# Altium schematic symbol library FLS ADC_A.SchLib: 25 symbols
Pins are listed as number, name and electrical type; pins without a type are passive.

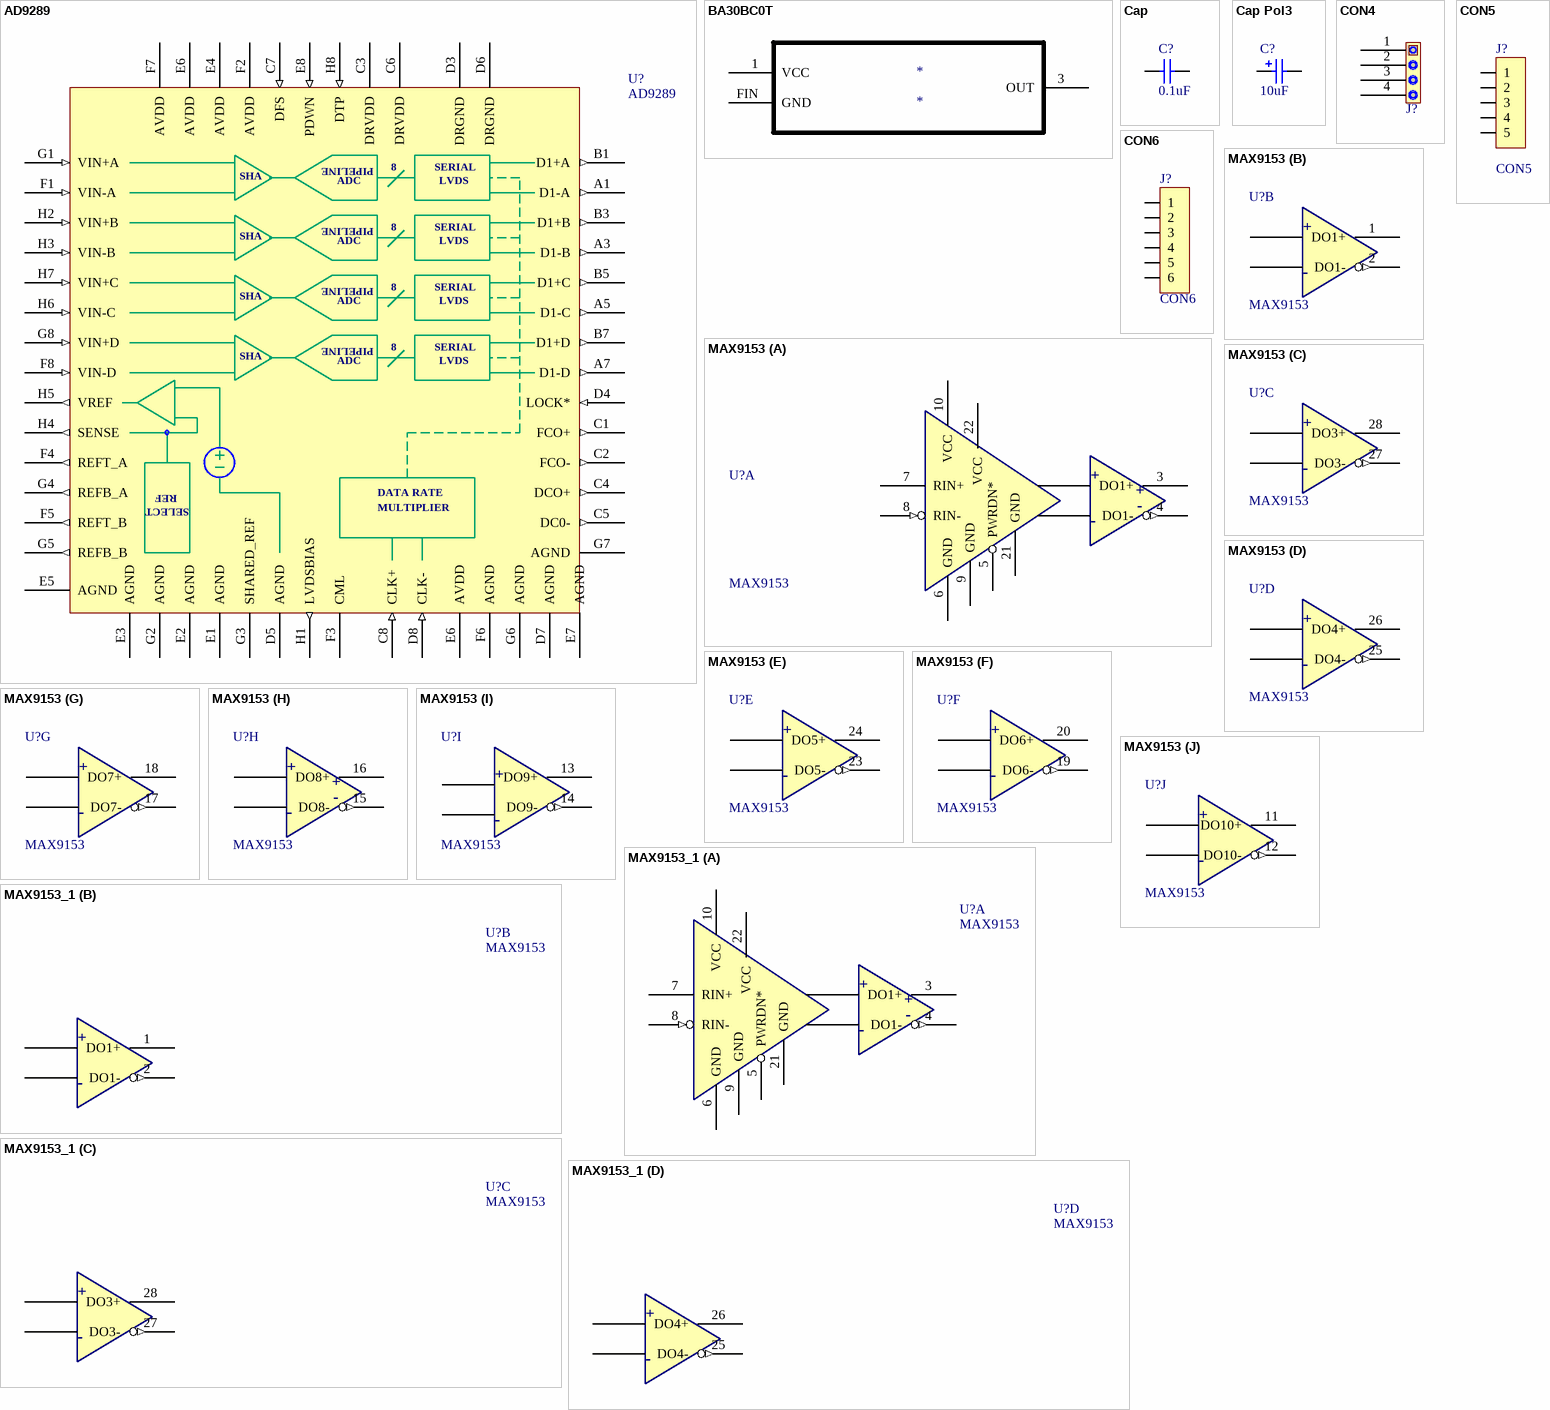
[diagram p0: symbols AD9289 to MAX9153_1]

## AD9289
designator U?
footprint BGA100P8X8-64A (BGA, 64-Leads, Body 10x10mm, Pitch 1mm)
footprint BGA80P8X8-64B
pins: A1 D1-A (out), A3 D1-B (out), A5 D1-C (out), A7 D1-D (out), B1 D1+A (out), B3 D1+B (out), B5 D1+C (out), B7 D1+D (out), C1 FCO+ (out) "FRAME CLOCK OUT (MSB INDICATOR)", C2 FCO- (out) "FRAME CLOCK OUT (MSB INDICATOR)", C3 DRVDD (power) "DIGITAL SUPPLY", C4 DCO+ (out) "DATA CLOCK OUTPUT", C5 DC0- (out) "DATA CLOCK OUTPUT", C6 DRVDD (power) "DIGITAL SUPPLY", C7 DFS (in) "DATA FORMAT SELECT", C8 CLK+ (in), D3 DRGND (power) "DIGITAL GROUND", D4 LOCK* (in) "PLL LOCK INPUT", D5 AGND (power), D6 DRGND (power) "DIGITAL GROUND", D7 AGND (power), D8 CLK- (in), E1 AGND (power), E2 AGND (power), E3 AGND (power), E4 AVDD (power) "ANALOG SUPPLY", E5 AGND (power), E6 AVDD (power), E6 AVDD (power) "ANALOG SUPPLY", E7 AGND (power), E8 PDWN (in), F1 VIN-A (in) "P", F2 AVDD (power) "ANALOG SUPPLY", F3 CML "COMMON MODE AVDD/2", F4 REFT_A (out), F5 REFT_B (out), F6 AGND (power), F7 AVDD (power) "ANALOG SUPPLY", F8 VIN-D (in), G1 VIN+A (in) "P", G2 AGND (power), G3 SHARED_REF (power), G4 REFB_A (out), G5 REFB_B (out), G6 AGND (power), G7 AGND (power), G8 VIN+D (in), H1 LVDSBIAS (out), H2 VIN+B (in), H3 VIN-B (in) "S", H4 SENSE (out), H5 VREF (out), H6 VIN-C (in), H7 VIN+C (in), H8 DTP (in) "DIGITAL TEST PATTERN"
text: PIPELINE; 8; SERIAL; SHA; ADC; LVDS; REF; DATA RATE; SELECT; MULTIPLIER

## BA30BC0T
designator *
footprint TO252-3 (Rohm TO252-3)
pins: 1 VCC, 3 OUT, FIN GND (power)

## Cap
designator C?, comment 0.1uF
Capacitor; Murata Electronics North America: GRM216F51E104ZA01D; Published: 8-Jun-2000; LatestRevisionDate: 17-Jul-2002; LatestRevisionNote: Re-released for DXP Platform.; PackageReference: RAD-0.3; Publisher: Altium Limited; Digi-Key: 490-1726-2-ND; Footprint: 0805; Value: 0.1uF
footprint RAD-0.3 (Radial Cap, Thru-Hole; 2 Leads; 0.3 in Pin Spacing)
footprint CAPR2.54-5.1x3.2 (Capacitor, Ceramic, Thru-Hole, Dipped Radial; Body 5.1 x 3.2 mm (WxT) Pin Spacing 2.54 mm (typ))
footprint CAPR5.08-7.8x3.2 (Capacitor, Ceramic, Thru-Hole, Dipped Radial; Body 7.8 x 3.2 mm (WxT) Pin Spacing 5.08 mm (typ))
simulation model CAP (Capacitor)
signal-integrity model Cap
footprint 0805 slim
footprint 1608[0603] (Chip Capacitor, Body 1.6x0.8mm, IPC High Density)
pins: 1, 2

## Cap Pol3
designator C?, comment 10uF
Polarized Capacitor (Surface Mount); TDK Corporation: C2012Y5V1A106Z; Description: CAP CER 10UF 10V Y5V 0805; Published: 8-Jun-2000; LatestRevisionDate: 29-May-2009; Footprint: 0805 (2012 Metric); PackageReference: C0805; Publisher: Altium Limited; PackageDescription: Chip Capacitor; Digi-Key: 445-1371-6-ND; Value: 10uF
footprint C0805 (Chip Capacitor, Body 2.0x1.3mm, IPC High Density)
footprint 1812 (Chip Capacitor, Body 4.5x3.2mm, IPC High Density)
footprint 1825 (Chip Capacitor, Body 4.5x6.4mm, IPC High Density)
footprint C2225 (Chip Capacitor, Body 5.7x6.4mm, IPC High Density)
footprint 2220 (Chip Capacitor, Body 5.7x5.0mm, IPC High Density)
simulation model CAP (Capacitor)
signal-integrity model Cap Pol
footprint TC7343-2917 (Capacitor, SM Tantalum; Body 7.3 x 4.3 mm (LxW typ))
footprint 1206
pins: 1, 2
1 alternate drawing of the same symbol

## CON4
designator J?  (value not drawn)
footprint SIP4
3D model Molex_CON_4_Header_022112042 (PCB3D Model)
pins: 1 (power), 2 (power), 3 (power), 4 (power)

## CON5
designator J?
footprint SIP5
pins: 1, 2, 3, 4, 5

## CON6
designator J?
pins: 1, 2, 3, 4, 5, 6

## MAX9153
designator U?
footprint TSSOP28-Max (TSOP, 28-Leads, Body 9.8x4.5mm (max), Pitch 0.65mm, IPC Medium Density)
part A pins: 3 DO1+, 4 DO1- (out), 5 PWRDN* (power), 6 GND (power), 7 RIN+, 8 RIN- (in), 9 GND (power), 10 VCC (power), 21 GND (power), 22 VCC (power)
part B pins: 1 DO1+, 2 DO1- (out)
part C pins: 27 DO3- (out), 28 DO3+
part D pins: 25 DO4- (out), 26 DO4+
part E pins: 23 DO5- (out), 24 DO5+
part F pins: 19 DO6- (out), 20 DO6+
part G pins: 17 DO7- (out), 18 DO7+
part H pins: 15 DO8- (out), 16 DO8+
part I pins: 13 DO9+, 14 DO9- (out)
part J pins: 11 DO10+, 12 DO10- (out)
part A text: +; -
part B text: +; -
part C text: +; -
part D text: +; -
part E text: +; -
part F text: +; -
part G text: +; -
part H text: +; -
part I text: +; -
part J text: +; -

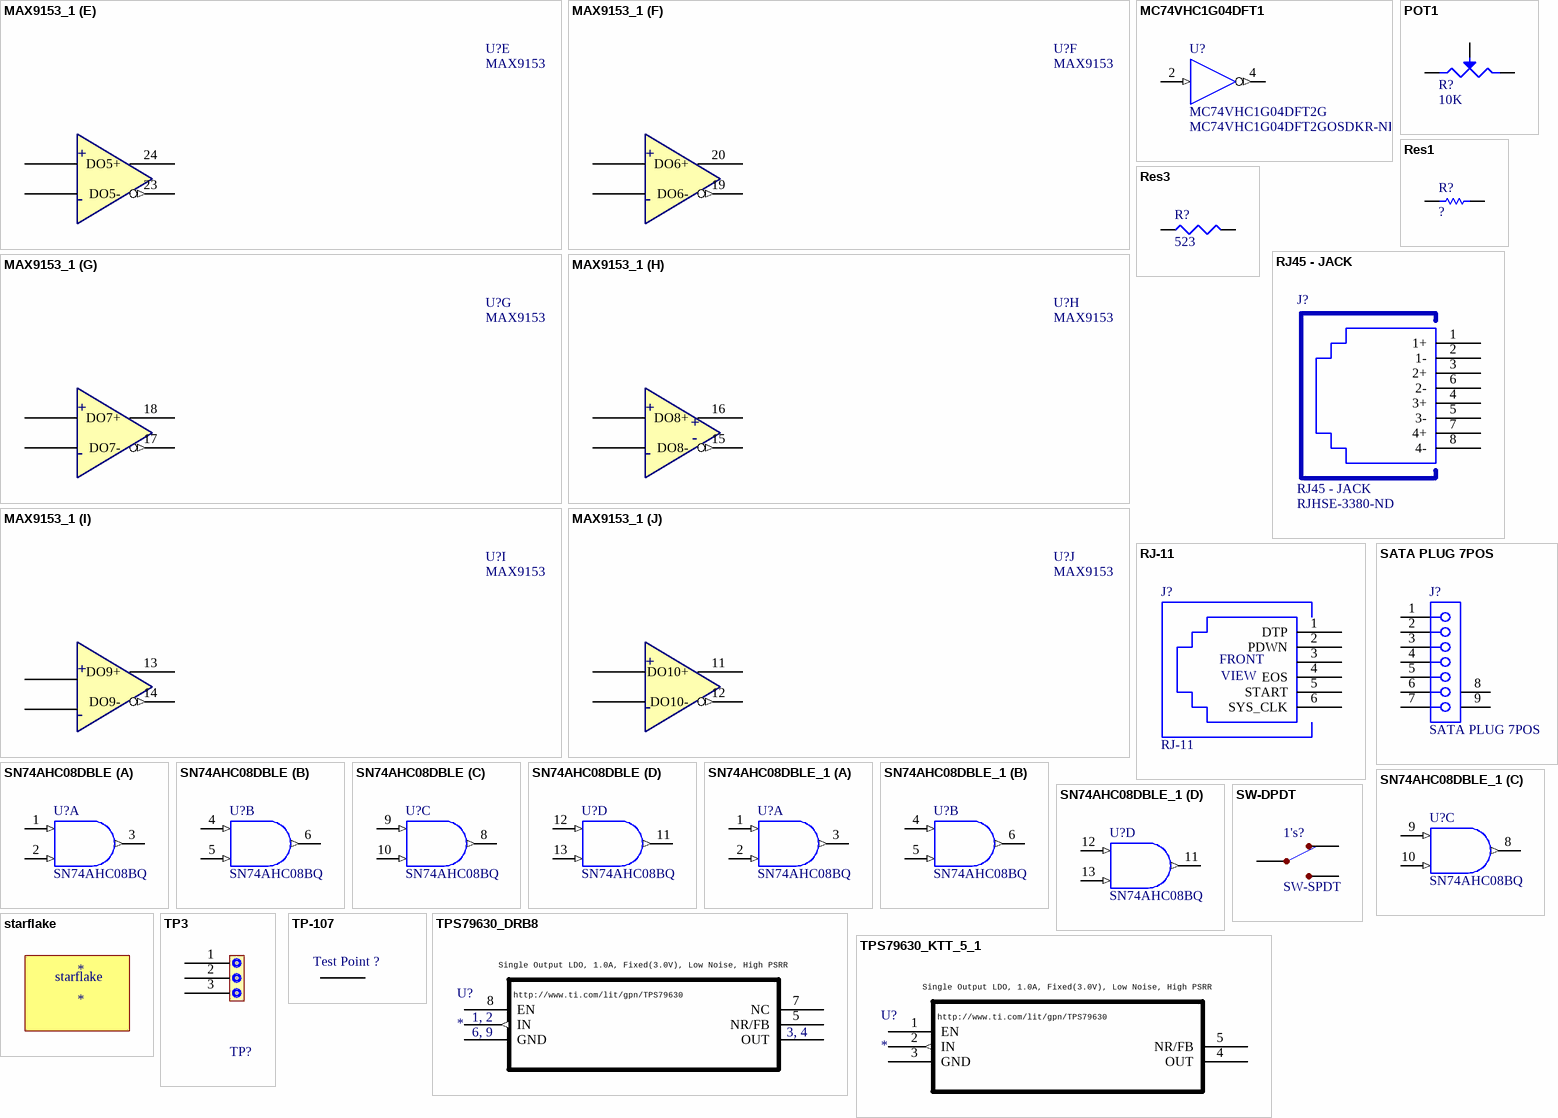
[diagram p1: symbols MAX9153_1 to TPS79630_KTT_5_1]

## MAX9153_1
designator U?, comment MAX9153
footprint TSSOP28-Max (TSOP, 28-Leads, Body 9.8x4.5mm (max), Pitch 0.65mm, IPC Medium Density)
footprint TSSOP50P640-28N (TSSOP, 28-Leads, Body 7.8x4.4mm, Pitch 0.5mm, IPC Medium Density)
part A pins: 3 DO1+, 4 DO1- (out), 5 PWRDN* (power), 6 GND (power), 7 RIN+, 8 RIN- (in), 9 GND (power), 10 VCC (power), 21 GND (power), 22 VCC (power)
part B pins: 1 DO1+, 2 DO1- (out)
part C pins: 27 DO3- (out), 28 DO3+
part D pins: 25 DO4- (out), 26 DO4+
part E pins: 23 DO5- (out), 24 DO5+
part F pins: 19 DO6- (out), 20 DO6+
part G pins: 17 DO7- (out), 18 DO7+
part H pins: 15 DO8- (out), 16 DO8+
part I pins: 13 DO9+, 14 DO9- (out)
part J pins: 11 DO10+, 12 DO10- (out)
part A text: +; -
part B text: +; -
part C text: +; -
part D text: +; -
part E text: +; -
part F text: +; -
part G text: +; -
part H text: +; -
part I text: +; -
part J text: +; -

## MC74VHC1G04DFT1
designator U?, comment MC74VHC1G04DFT2G  Supplier Part Number 1: MC74VHC1G04DFT2GOSDKR-ND
Inverter; Note: Pin 1 is NC and is not drawn.; Published: 15-Apr-2002; LatestRevisionDate: 12-Dec-2006; LatestRevisionNote: IPC-7351 Footprint Added.; DatasheetVersion: 1999; PackageVersion: Oct-1999; PackageReference: 419A-01; Publisher: Altium Limited; PackageDescription: 5-Pin SOT-353 Package 0.65 mm Pitch, 2.1 mm Lead Span; ComponentLink1Description: Manufacturer Link; ComponentLink1URL: http://www.onsemi.com/; ComponentLink2Description: Datasheet; ComponentLink2URL: http://www.onsemi.com/pub/Collateral/MC74VHC1G04-D.PDF; Supplier 1: Digi-Key
footprint 419A-01_N (SOT353, 5-Leads, Body 2x1.3mm, Pitch 0.65mm, Lead Span 2.1mm, IPC Medium Density)
footprint 419A-01_L (SOT353, 5-Leads, Body 2x1.3mm, Pitch 0.65mm, Lead Span 2.1mm, IPC High Density)
footprint 419A-01_M (SOT353, 5-Leads, Body 2x1.3mm, Pitch 0.65mm, Lead Span 2.1mm, IPC Low Density)
pins: 2 IN (in), 3 GND (power) hidden to GND, 4 ~{OUT} (out), 5 VDD (power) hidden to 3VCCD

## POT1
designator R?, comment 10K
Vishay Foil Resistors (Division of Vishay Precision Group): Y405310K0000J0L; Description: TRIMMER 10K OHM 0.25W TH; Temperature Coefficient: ±10ppm/°C; Digi-Key Part Number: 804-1003-ND; Series: Accutrim 1240W
footprint V1240W
pins: CCW, CW, W

## Res1
designator R?
Resistor; Published: 8-Jun-2000; LatestRevisionDate: 17-Jul-2002; LatestRevisionNote: Re-released for DXP Platform.; PackageReference: AXIAL-0.3; Publisher: Altium Limited; Value: ?
footprint AXIAL-0.3 (Axial Device, Thru-Hole; 2 Leads; 0.3 in Pin Spacing)
simulation model RESISTOR (Resistor)
signal-integrity model Res
footprint 0805 SLIM
footprint J1-0603
footprint 1206 (Chip Capacitor; Body 3.2 x 1.6 mm (LxW typ))
pins: 1, 2

## Res3
designator R?, comment value 523  (hidden comment: 673)
Resistor; Panasonic - ECG: ERJ-6ENF5230V; Description: RES 523 OHM 1/8W 1% 0805 SMD; Published: 8-Jun-2000; LatestRevisionDate: 29-May-2009; LatestRevisionNote: IPC-7351 Footprint Added.; PackageReference: J1-0603; Publisher: Altium Limited; PackageDescription: Chip Resistor; Digi-key: P523CDKR-ND; Size: 0805 (2012 Metric)
footprint J1-0603 (Chip Resistor, Body 1.6x0.8mm, IPC High Density)
footprint 14-1210 (Chip Resistor, Body 3.2x2.5mm, IPC High Density)
footprint 12Z-2010 (Chip Resistor, Body 5.0x2.5mm, IPC High Density)
footprint RESC6332 (Chip Resistor, Body 6.3x3.2mm, IPC High Density)
simulation model RESISTOR (Resistor)
signal-integrity model Res
pins: 1, 2

## RJ45 - JACK
designator J?  Supplier Part Number 1: RJHSE-3380-ND
Manufacturer: Amphenol Commercial Products; Description: CONN RJ45 MOD JACK VERT SHIELD; Number of Positions/Contacts: 8p8c (RJ45, Ethernet); Manufactuer Part Number: RJHSE-3380; Digi-Key Part Number: RJHSE-3380-ND; Supplier 1: Digi-Key
footprint RJ45 8P8C 45* MOD JACK (CONN 8-8 MOD JACK SHIELDED 45DEG)
3D model Model Name (PCB3D Model)
footprint RJ45 Vertical Single (RJHSE-3380)
pins: 1 1+, 2 1-, 3 2+, 4 3+, 5 3-, 6 2-, 7 4+, 8 4-, MH1 hidden "Housing", MH2 hidden "Housing", MH3 hidden to GND "Shell", MH4 hidden to GND "Shell"

## RJ-11
designator J?
RJ-11 6-PIN CONNECTOR; TE Connectivity: 5520258-3; Description: CONN MOD JACK 6-6 VERT PCB 50AU; Digi-Key Part Number: A31411-ND
footprint JACK1.02-2H12 (Connector; PCB Jack, Thru-Hole; 2-Port, 6 Positions, 6 Loaded; Unshielded without Lightpipes; Right Angle)
footprint RJ11 - 5555140-1 (RIGHT-ANGLE RJ11 CONNECTOR)
3D model Model Name (PCB3D Model)
footprint RJ11 - Vertical
pins: 1 DTP, 2 PDWN, 3, 4 EOS, 5 START, 6 SYS_CLK
text: FRONT; VIEW

## SATA PLUG 7POS
designator J?
3D model Model Name (PCB3D Model)
footprint Molex 471554001 (CONN SATA HDR 7POS PCB VERT)
pins: 1, 2, 3, 4, 5, 6, 7, 8 MH1, 9 MH2

## SN74AHC08DBLE
designator U?, comment SN74AHC08BQ
Quadruple 2-Input Positive-AND Gate; Published: 8-Jun-2000; LatestRevisionDate: 04-Mar-2005; LatestRevisionNote: Stylized 3D Model Added.; DatasheetVersion: Jul-1998; PackageVersion: May-1999; PackageReference: DB014; Publisher: Altium Limited; PackageDescription: SSOP, Plastic; 14 Leads; Body Width 5.3 mm; Pitch 0.65 mm; Code_JEDEC: MO-150-AB; ComponentLink1Description: Manufacturer Link; ComponentLink1URL: http://www.ti.com/; ComponentLink2Description: Datasheet; ComponentLink2URL: http://www-s.ti.com/sc/ds/sn74ahc08.pdf; ComponentLink3Description: Packaging Specification; ComponentLink3URL: http://focus.ti.com/lit/ml/msso002e/msso002e.pdf
footprint DB014 (SSOP, Plastic; 14 Leads; Body Width 5.3 mm; Pitch 0.65 mm)
3D model DB014 (SSOP, Plastic; 14 Leads; Body Width 5.3 mm; Pitch 0.65 mm)
signal-integrity model SN74AHC08DBLE
footprint DGV014 (Shrink Small Outline; 14 Leads; Body Width 4.4 mm; Pitch 0.4 mm)
pins on every part: 7 GND (power) hidden to GND, 14 VCC (power) hidden to 3VCCD
part A pins: 1 A (in), 2 B (in), 3 Y (out)
part B pins: 4 A (in), 5 B (in), 6 Y (out)
part C pins: 8 Y (out), 9 A (in), 10 B (in)
part D pins: 11 Y (out), 12 A (in), 13 B (in)

## SN74AHC08DBLE_1
designator U?, comment SN74AHC08BQ
Quadruple 2-Input Positive-AND Gate; Published: 8-Jun-2000; LatestRevisionDate: 04-Mar-2005; LatestRevisionNote: Stylized 3D Model Added.; DatasheetVersion: Jul-1998; PackageVersion: May-1999; PackageReference: DB014; Publisher: Altium Limited; PackageDescription: SSOP, Plastic; 14 Leads; Body Width 5.3 mm; Pitch 0.65 mm; Code_JEDEC: MO-150-AB; ComponentLink1Description: Manufacturer Link; ComponentLink1URL: http://www.ti.com/; ComponentLink2Description: Datasheet; ComponentLink2URL: http://www-s.ti.com/sc/ds/sn74ahc08.pdf; ComponentLink3Description: Packaging Specification; ComponentLink3URL: http://focus.ti.com/lit/ml/msso002e/msso002e.pdf
footprint DB014 (SSOP, Plastic; 14 Leads; Body Width 5.3 mm; Pitch 0.65 mm)
3D model DB014 (SSOP, Plastic; 14 Leads; Body Width 5.3 mm; Pitch 0.65 mm)
signal-integrity model SN74AHC08DBLE
footprint LEE14A (QFN, 14-Leads, Body 2.5x2.5 mm, Pitch 0.4mm, NSC Recommended)
footprint DGV014 (Shrink Small Outline; 14 Leads; Body Width 4.4 mm; Pitch 0.4 mm)
pins on every part: 7 GND (power) hidden to GND, 14 VCC (power) hidden to 3VCCD
part A pins: 1 A (in), 2 B (in), 3 Y (out)
part B pins: 4 A (in), 5 B (in), 6 Y (out)
part C pins: 8 Y (out), 9 A (in), 10 B (in)
part D pins: 11 Y (out), 12 A (in), 13 B (in)

## starflake
designator *
footprint STARFLAKE

## SW-DPDT
designator 1's?, comment SW-SPDT
footprint SIP3 (SIP Header)
pins: 1, 3, 4

## TP3
designator TP?  (value not drawn)
footprint SIP3 (SIP Header)
pins: 1 (power), 2 (power), 3 (power)

## TP-107
designator Test Point ?  (value not drawn)
footprint TP-107
pins: 1 "Test Point"

## TPS79630_DRB8
designator U?  DESCRIPTION: Single Output LDO, 1.0A, Fixed(3.0V), Low Noise, High PSRR
Imported; Datasheet URL: http://www.ti.com/lit/gpn/TPS79630
footprint DRB8_2P4X1P65
pins: 1 IN (out), 2 IN (out), 3 OUT, 4 OUT, 5 NR/FB, 6 GND (power), 7 NC (power), 8 EN, 9 (power), V_1 (power), V_2 (power), V_3 (power), V_4 (power), V_5 (power), V_6 (power)
text: 1, 2; 6, 9; 3, 4

## TPS79630_KTT_5_1
designator U?  DESCRIPTION: Single Output LDO, 1.0A, Fixed(3.0V), Low Noise, High PSRR
Imported; Datasheet URL: http://www.ti.com/lit/gpn/TPS79630
footprint KTT5_6P22X6P86
footprint DCQ6
footprint DRB8_2P4X1P65; pin to pad 1>8 2>1+2 3>6 4>3+4
pins: 1 EN, 2 IN (out), 3 GND (power), 4 OUT, 5 NR/FB, 9 (power), V_1 (power), V_2 (power), V_3 (power), V_4 (power), V_5 (power), V_6 (power)

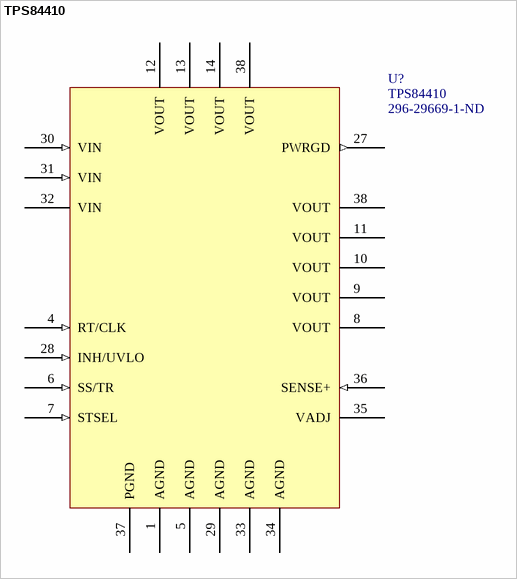
[diagram p2: symbol TPS84410]

## TPS84410
designator U?  Supplier Part Number 1: 296-29669-1-ND
Supplier 1: Digi-Key
footprint QFN-N39 (TI TPS84410 Voltage Regulator)
pins: 1 AGND (power), 4 RT/CLK (in), 5 AGND (power), 6 SS/TR (in), 7 STSEL (in), 8 VOUT (power), 9 VOUT (power), 10 VOUT (power), 11 VOUT (power), 12 VOUT (power), 13 VOUT (power), 14 VOUT (power), 27 PWRGD (out), 28 INH/UVLO (in), 29 AGND (power), 30 VIN (in), 31 VIN (in), 32 VIN (power), 33 AGND (power), 34 AGND (power), 35 VADJ, 36 SENSE+ (in), 37 PGND (power), 38 VOUT (power), 38 VOUT (power)